# Altium footprint library HDR-TH_108P-P2.54-H-R3-C36-S2.54-W10.2 COPY.PcbLib: 1 footprints
Each footprint in its own frame and in the unit in brackets; x right, y up, seen from the top. Pads: shape width x height; smd on the part's side, far side on the other; paste and mask are expansions set on the pad; w line width, h text height; cw(c..) or ccw(c..) is an arc to the next point about the centre after c.
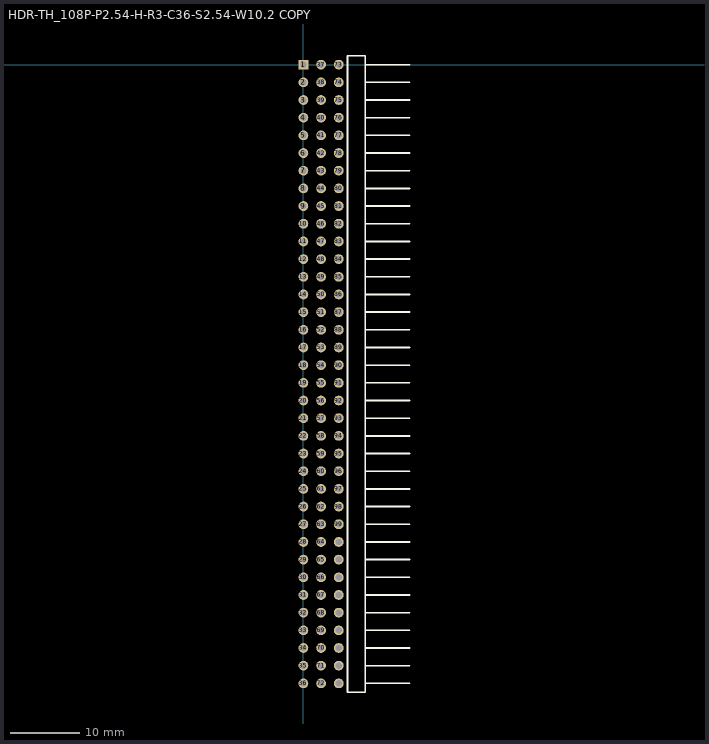
[diagram p0: the footprint, top view; thin cyan lines are the x and y axes]

## HDR-TH_108P-P2.54-H-R3-C36-S2.54-W10.2 COPY [mm]
pads (108):
  rect 1.4x1.4 hole 0.9: 1(0,0)
  round 1.4 hole 0.9: 2(0,-2.54) 3(0,-5.08) 4(0,-7.62) 5(0,-10.16) 6(0,-12.7) 7(0,-15.24) 8(0,-17.78) 9(0,-20.32) 10(0,-22.86) 11(0,-25.4) 12(0,-27.94) 13(0,-30.48) 14(0,-33.02) 15(0,-35.56) 16(0,-38.1) 17(0,-40.64) 18(0,-43.18) 19(0,-45.72) 20(0,-48.26) 21(0,-50.8) 22(0,-53.34) 23(0,-55.88) 24(0,-58.42) 25(0,-60.96) 26(0,-63.5) 27(0,-66.04) 28(0,-68.58) 29(0,-71.12) 30(0,-73.66) 31(0,-76.2) 32(0,-78.74) 33(0,-81.28) 34(0,-83.82) 35(0,-86.36) 36(0,-88.9) 37(2.54,0) 38(2.54,-2.54) 39(2.54,-5.08) 40(2.54,-7.62) 41(2.54,-10.16) 42(2.54,-12.7) 43(2.54,-15.24) 44(2.54,-17.78) 45(2.54,-20.32) 46(2.54,-22.86) 47(2.54,-25.4) 48(2.54,-27.94) 49(2.54,-30.48) 50(2.54,-33.02) 51(2.54,-35.56) 52(2.54,-38.1) 53(2.54,-40.64) 54(2.54,-43.18) 55(2.54,-45.72) 56(2.54,-48.26) 57(2.54,-50.8) 58(2.54,-53.34) 59(2.54,-55.88) 60(2.54,-58.42) 61(2.54,-60.96) 62(2.54,-63.5) 63(2.54,-66.04) 64(2.54,-68.58) 65(2.54,-71.12) 66(2.54,-73.66) 67(2.54,-76.2) 68(2.54,-78.74) 69(2.54,-81.28) 70(2.54,-83.82) 71(2.54,-86.36) 72(2.54,-88.9) 73(5.08,0) 74(5.08,-2.54) 75(5.08,-5.08) 76(5.08,-7.62) 77(5.08,-10.16) 78(5.08,-12.7) 79(5.08,-15.24) 80(5.08,-17.78) 81(5.08,-20.32) 82(5.08,-22.86) 83(5.08,-25.4) 84(5.08,-27.94) 85(5.08,-30.48) 86(5.08,-33.02) 87(5.08,-35.56) 88(5.08,-38.1) 89(5.08,-40.64) 90(5.08,-43.18) 91(5.08,-45.72) 92(5.08,-48.26) 93(5.08,-50.8) 94(5.08,-53.34) 95(5.08,-55.88) 96(5.08,-58.42) 97(5.08,-60.96) 98(5.08,-63.5) 99(5.08,-66.04) 100(5.08,-68.58) 101(5.08,-71.12) 102(5.08,-73.66) 103(5.08,-76.2) 104(5.08,-78.74) 105(5.08,-81.28) 106(5.08,-83.82) 107(5.08,-86.36) 108(5.08,-88.9)
Top Overlay:
  lines w0.254: 8.89,-88.9 15.24,-88.9 ; 8.89,-86.36 15.24,-86.36 ; 8.89,-83.82 15.24,-83.82 ; 8.89,-81.28 15.24,-81.28 ; 8.89,-78.74 15.24,-78.74 ; 8.89,-76.2 15.24,-76.2 ; 8.89,-73.66 15.24,-73.66 ; 8.89,-71.12 15.24,-71.12 ; 8.89,-68.58 15.24,-68.58 ; 8.89,-66.04 15.24,-66.04 ; 8.89,-63.5 15.24,-63.5 ; 8.89,-60.96 15.24,-60.96 ; 8.89,-58.42 15.24,-58.42 ; 8.89,-55.88 15.24,-55.88 ; 8.89,-53.34 15.24,-53.34 ; 8.89,-50.8 15.24,-50.8 ; 8.89,-48.26 15.24,-48.26 ; 8.89,-45.72 15.24,-45.72 ; 8.89,-43.18 15.24,-43.18 ; 8.89,-40.64 15.24,-40.64 ; 8.89,-38.1 15.24,-38.1 ; 8.89,-35.56 15.24,-35.56 ; 8.89,-33.02 15.24,-33.02 ; 8.89,-30.48 15.24,-30.48 ; 8.89,-27.94 15.24,-27.94 ; 8.89,-25.4 15.24,-25.4 ; 8.89,-22.86 15.24,-22.86 ; 8.89,-20.32 15.24,-20.32 ; 8.89,-17.78 15.24,-17.78 ; 8.89,-15.24 15.24,-15.24 ; 8.89,-12.7 15.24,-12.7 ; 8.89,-10.16 15.24,-10.16 ; 8.89,-7.62 15.24,-7.62 ; 8.89,-5.08 15.24,-5.08 ; 8.89,-2.54 15.24,-2.54 ; 8.89,0 15.24,0 ; 6.35,-90.17 8.89,-90.17 8.89,1.27 6.35,1.27 6.35,-90.17